# Altium schematic symbol library logic.SchLib: 28 symbols
Pins are listed as number, name and electrical type; pins without a type are passive.

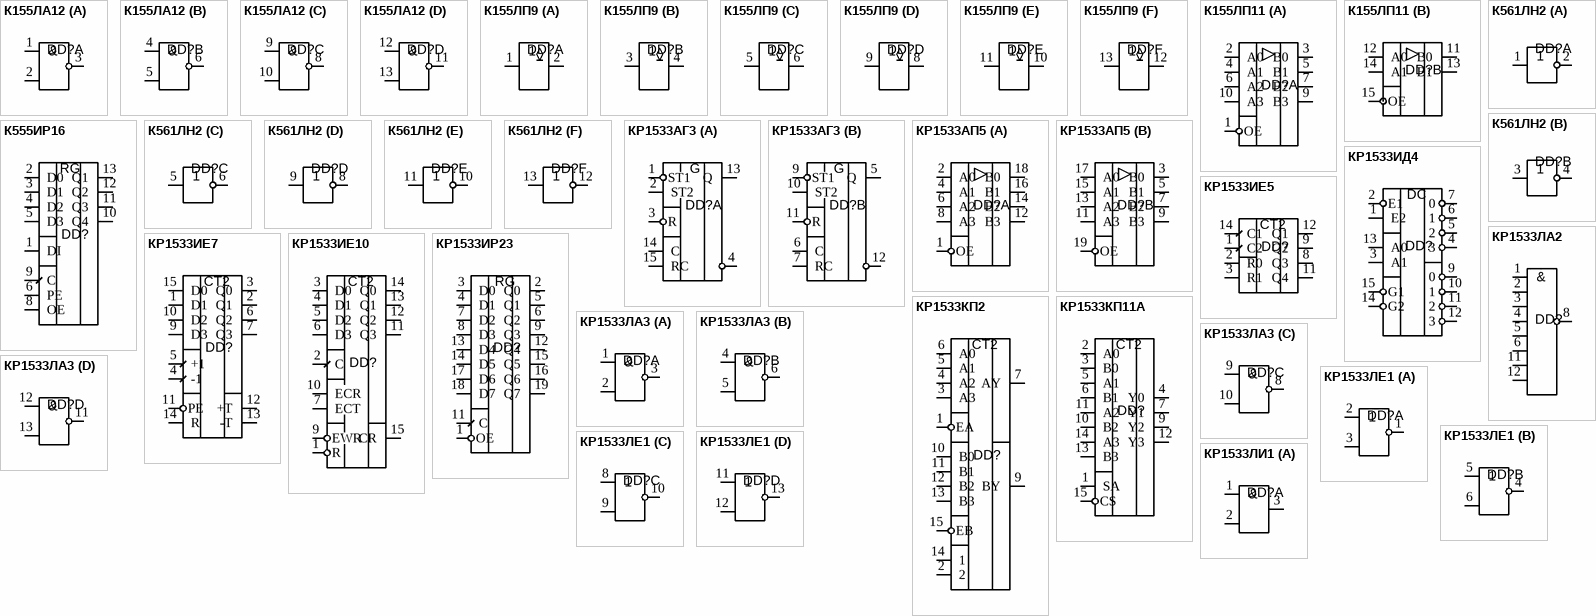
[diagram p0: symbols К155ЛA12 to КР1533ЛИ1]

## К155ЛA12
designator DD?  (value not drawn)
footprint DIP14
part A pins: 1, 2, 3, 7 GND (power) hidden, 14 VCC (power) hidden
part B pins: 4, 5, 6
part C pins: 8, 9, 10
part D pins: 11, 12, 13
part A text: &
part B text: &
part C text: &
part D text: &

## К155ЛП9
designator DD?  (value not drawn)
footprint DIP14
part A pins: 1, 2, 7 GND (power) hidden, 14 VCC (power) hidden
part B pins: 3, 4
part C pins: 5, 6
part D pins: 8, 9
part E pins: 10, 11
part F pins: 12, 13

## К155ЛП11
designator DD?  (value not drawn)
footprint DIP16
part A pins: 1 OE, 2 A0, 3 B0, 4 A1, 5 B1, 6 A2, 7 B2, 8 GND (power) hidden, 9 B3, 10 A3, 16 VCC (power) hidden
part B pins: 11 B0, 12 A0, 13 B1, 14 A1, 15 OE

## К555ИР16
designator DD?  (value not drawn)
footprint DIP14
pins: 1 DI, 2 D0, 3 D1, 4 D2, 5 D3, 6 PE, 7 GND (power) hidden, 8 OE, 9 C, 10 Q4, 11 Q3, 12 Q2, 13 Q1, 14 VCC (power) hidden
text: RG

## К561ЛН2
designator DD?  (value not drawn)
footprint DIP14
part A pins: 1, 2, 7 GND (power) hidden, 14 VCC (power) hidden
part B pins: 3, 4
part C pins: 5, 6
part D pins: 8, 9
part E pins: 10, 11
part F pins: 12, 13

## КР1533АГ3
designator DD?  (value not drawn)
footprint DIP16
part A pins: 1 ST1, 2 ST2, 3 R, 4, 8 GND (power) hidden, 13 Q, 14 C, 15 RC, 16 VCC (power) hidden
part B pins: 5 Q, 6 C, 7 RC, 9 ST1, 10 ST2, 11 R, 12
part A text: G
part B text: G

## КР1533АП5
designator DD?  (value not drawn)
footprint DIP20
part A pins: 1 OE, 2 A0, 4 A1, 6 A2, 8 A3, 10 GND (power) hidden, 12 B3, 14 B2, 16 B1, 18 B0, 20 VCC (power) hidden
part B pins: 3 B0, 5 B1, 7 B2, 9 B3, 11 A3, 13 A2, 15 A1, 17 A0, 19 OE

## КР1533ИД4
designator DD?  (value not drawn)
footprint DIP16
pins: 1 E2, 2 E1, 3 A1, 4 3, 5 2, 6 1, 7 0, 8 GND (power) hidden, 9 0, 10 1, 11 2, 12 3, 13 A0, 14 G2, 15 G1, 16 VCC (power) hidden
text: DC

## КР1533ИЕ5
designator DD?  (value not drawn)
footprint DIP14
pins: 1 C2, 2 R0, 3 R1, 5 VCC (power) hidden, 8 Q3, 9 Q2, 10 GND (power) hidden, 11 Q4, 12 Q1, 14 C1
text: CT2

## КР1533ИЕ7
designator DD?  (value not drawn)
footprint DIP16
pins: 1 D1, 2 Q1, 3 Q0, 4 -1, 5 +1, 6 Q2, 7 Q3, 8 GND (power) hidden, 9 D3, 10 D2, 11 PE, 12 +T, 13 -T, 14 R, 15 D0, 16 VCC (power) hidden
text: CT2

## КР1533ИЕ10
designator DD?  (value not drawn)
footprint DIP16
pins: 1 R, 2 C, 3 D0, 4 D1, 5 D2, 6 D3, 7 ECT, 8 GND (power) hidden, 9 EWR, 10 ECR, 11 Q3, 12 Q2, 13 Q1, 14 Q0, 15 CR, 16 VCC (power) hidden
text: CT2

## КР1533ИР23
designator DD?  (value not drawn)
footprint DIP20
pins: 1 OE, 2 Q0, 3 D0, 4 D1, 5 Q1, 6 Q2, 7 D2, 8 D3, 9 Q3, 10 GND (power) hidden, 11 C, 12 Q4, 13 D4, 14 D5, 15 Q5, 16 Q6, 17 D6, 18 D7, 19 Q7, 20 VCC (power) hidden
text: RG

## КР1533КП2
designator DD?  (value not drawn)
footprint DIP16
pins: 1 EA, 2, 3 A3, 4 A2, 5 A1, 6 A0, 7 AY, 8 GND (power) hidden, 9 BY, 10 B0, 11 B1, 12 B2, 13 B3, 14 1, 15 EB, 16 VCC (power) hidden
text: CT2

## КР1533КП11А
designator DD?  (value not drawn)
footprint DIP16
pins: 1 SA, 2 A0, 3 B0, 4 Y0, 5 A1, 6 B1, 7 Y1, 8 GND (power) hidden, 9 Y2, 10 B2, 11 A2, 12 Y3, 13 B3, 14 A3, 15 CS, 16 VCC (power) hidden
text: CT2

## КР1533ЛA2
designator DD?  (value not drawn)
footprint DIP14
pins: 1, 2, 3, 4, 5, 6, 7 GND (power) hidden, 8, 11, 12, 14 VCC (power) hidden
text: &

## КР1533ЛA3
designator DD?  (value not drawn)
footprint DIP14
part A pins: 1, 2, 3, 7 GND (power) hidden, 14 VCC (power) hidden
part B pins: 4, 5, 6
part C pins: 8, 9, 10
part D pins: 11, 12, 13
part A text: &
part B text: &
part C text: &
part D text: &

## КР1533ЛЕ1
designator DD?  (value not drawn)
footprint DIP14
part A pins: 1, 2, 3, 7 GND (power) hidden, 14 VCC (power) hidden
part B pins: 4, 5, 6
part C pins: 8, 9, 10
part D pins: 11, 12, 13

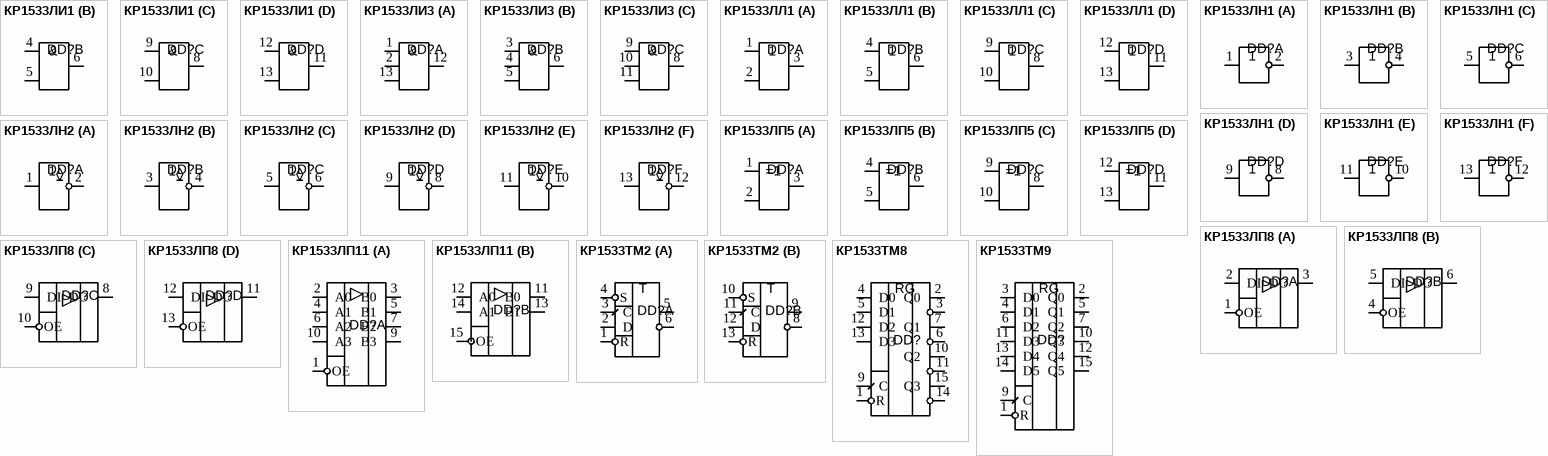
[diagram p1: symbols КР1533ЛИ1 to КР1533ТМ9]

## КР1533ЛИ1
designator DD?  (value not drawn)
footprint DIP14
part A pins: 1, 2, 3, 7 GND (power) hidden, 14 VCC (power) hidden
part B pins: 4, 5, 6
part C pins: 8, 9, 10
part D pins: 11, 12, 13
part A text: &
part B text: &
part C text: &
part D text: &

## КР1533ЛИ3
designator DD?  (value not drawn)
footprint DIP14
part A pins: 1, 2, 7 GND (power) hidden, 12, 13, 14 VCC (power) hidden
part B pins: 3, 4, 5, 6
part C pins: 8, 9, 10, 11
part A text: &
part B text: &
part C text: &

## КР1533ЛЛ1
designator DD?  (value not drawn)
footprint DIP14
part A pins: 1, 2, 3, 7 GND (power) hidden, 14 VCC (power) hidden
part B pins: 4, 5, 6
part C pins: 8, 9, 10
part D pins: 11, 12, 13

## КР1533ЛН1
designator DD?  (value not drawn)
footprint DIP14
part A pins: 1, 2, 7 GND (power) hidden, 14 VCC (power) hidden
part B pins: 3, 4
part C pins: 5, 6
part D pins: 8, 9
part E pins: 10, 11
part F pins: 12, 13

## КР1533ЛН2
designator DD?  (value not drawn)
footprint DIP14
part A pins: 1, 2, 7 GND (power) hidden, 14 VCC (power) hidden
part B pins: 3, 4
part C pins: 5, 6
part D pins: 8, 9
part E pins: 10, 11
part F pins: 12, 13

## КР1533ЛП5
designator DD?  (value not drawn)
footprint DIP14
part A pins: 1, 2, 3, 7 GND (power) hidden, 14 VCC (power) hidden
part B pins: 4, 5, 6
part C pins: 8, 9, 10
part D pins: 11, 12, 13

## КР1533ЛП8
designator DD?  (value not drawn)
footprint DIP14
part A pins: 1 OE, 2 DI, 3 DO, 7 GND (power) hidden, 14 VCC (power) hidden
part B pins: 4 OE, 5 DI, 6 DO
part C pins: 8 DO, 9 DI, 10 OE
part D pins: 11 DO, 12 DI, 13 OE

## КР1533ЛП11
designator DD?  (value not drawn)
footprint DIP16
part A pins: 1 OE, 2 A0, 3 B0, 4 A1, 5 B1, 6 A2, 7 B2, 8 GND (power) hidden, 9 B3, 10 A3, 16 VCC (power) hidden
part B pins: 11 B0, 12 A0, 13 B1, 14 A1, 15 OE

## КР1533ТМ2
designator DD?  (value not drawn)
footprint DIP14
part A pins: 1 R, 2 D, 3 C, 4 S, 5, 6, 7 GND (power) hidden, 14 VCC (power) hidden
part B pins: 8, 9, 10 S, 11 C, 12 D, 13 R
part A text: Т
part B text: Т

## КР1533ТМ8
designator DD?  (value not drawn)
footprint DIP16
pins: 1 R, 2 Q0, 3, 4 D0, 5 D1, 6, 7 Q1, 8 GND (power) hidden, 9 C, 10 Q2, 11, 12 D2, 13 D3, 14, 15 Q3, 16 VCC (power) hidden
text: RG

## КР1533ТМ9
designator DD?  (value not drawn)
footprint DIP16
pins: 1 R, 2 Q0, 3 D0, 4 D1, 5 Q1, 6 D2, 7 Q2, 8 GND (power) hidden, 9 C, 10 Q3, 11 D3, 12 Q4, 13 D4, 14 D5, 15 Q5, 16 VCC (power) hidden
text: RG